# Altium schematic symbol library Schlib1.SchLib: 1 symbol
Pins are listed as number, name and electrical type; pins without a type are passive.

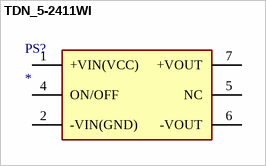
[diagram p0: symbol TDN_5-2411WI]

## TDN_5-2411WI
designator PS?
TRACOPOWER         TDN 5-2411WI             Isolated Board Mount DC/DC Converter, Fixed, 1 Output, 9 V, 36 V, 5 W, 5 V                          New; Number of Outputs: 1; Min Input Voltage: 9V; Max Input Voltage: 36V; Max Output Power: 5W; Voltage - Output 1: 5V; Current - Output 1: 1A; Supplier 1: Digi-Key; Manufacturer: Traco Power; Manufacturer Part Number: TDN5-2411WI; RoHS: Yes; Category: Board Mount Modules; Stock 1: 137; Pricing 1: 1=25,79000, 10=25,23400, 25=24,83920, 40=23,65650, 80=21,68513, 230=21,29087, 440=21,02800 (USD); Width: 9.1mm; Height: 10.2mm; Depth: 13.2mm; RoHS Compliant: Yes; REACH SVHC: No SVHC; ComponentLink1URL: http://www.farnell.com/datasheets/2361759.pdf?src-supplier=Farnell; ComponentLink1Description: http://www.farnell.com/datasheets/2361759.pdf?src-supplier=Farnell; ComponentLink2URL: http://www.farnell.com/datasheets/2062557.pdf?src-supplier=Element14; ComponentLink2Description: http://www.farnell.com/datasheets/2062557.pdf?src-supplier=Element14; Supplier Part Number 1: 1951-1377-ND
footprint TDN 5-2411WI
pins: 1 +VIN(VCC), 2 -VIN(GND), 4 ON/OFF, 5 NC, 6 -VOUT, 7 +VOUT